# Altium schematic symbol library 2016-06-22_14-55-40.SchLib: 4 symbols
Pins are listed as number, name and electrical type; pins without a type are passive.

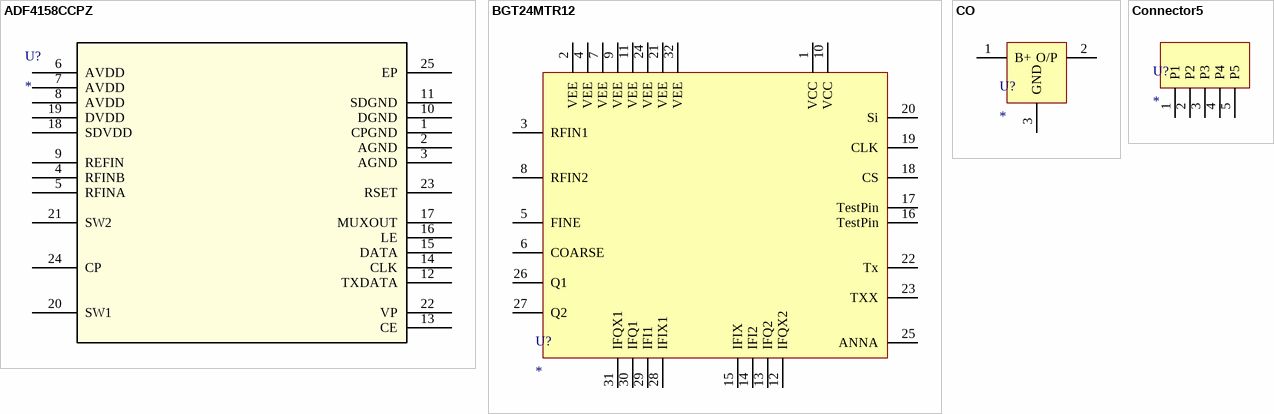
[diagram p0: symbols ADF4158CCPZ to Connector5]

## ADF4158CCPZ
designator U?
Imported; RefDes: RefDes; Type: Type; Value: Value
footprint CP_24_7
pins: 1 CPGND, 2 AGND, 3 AGND, 4 RFINB, 5 RFINA, 6 AVDD, 7 AVDD, 8 AVDD, 9 REFIN, 10 DGND, 11 SDGND, 12 TXDATA, 13 CE, 14 CLK, 15 DATA, 16 LE, 17 MUXOUT, 18 SDVDD, 19 DVDD, 20 SW1, 21 SW2, 22 VP, 23 RSET, 24 CP, 25 EP

## BGT24MTR12
designator U?
footprint QFN50P540X440X90_HS-33N (QFN, 32-Leads, Body 5.40x4.40mm, Pitch 0.50mm, Thermal Pad 3.90x2.90mm, IPC Medium Density)
pins: 1 VCC, 2 VEE, 3 RFIN1, 4 VEE, 5 FINE, 6 COARSE, 7 VEE, 8 RFIN2, 9 VEE, 10 VCC, 11 VEE, 12 IFQX2, 13 IFQ2, 14 IFI2, 15 IFIX, 16 TestPin, 17 TestPin, 18 CS, 19 CLK, 20 Si, 21 VEE, 22 Tx, 23 TXX, 24 VEE, 25 ANNA, 26 Q1, 27 Q2, 28 IFIX1, 29 IFI1, 30 IFQ1, 31 IFQX1, 32 VEE

## CO
designator U?
footprint FOX801BE-100
pins: 1 B+, 2 O/P, 3 GND

## Connector5
designator U?
footprint Connector5P - duplicate
pins: 1 P1, 2 P2, 3 P3, 4 P4, 5 P5